# Altium schematic symbol library APT60DQ60SG.SCHLIB: 1 symbol
Pins are listed as number, name and electrical type; pins without a type are passive.

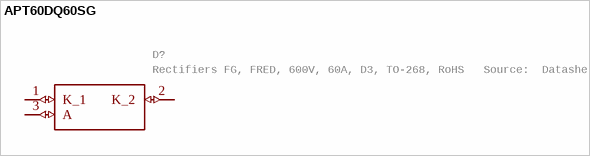
[diagram p0: symbol APT60DQ60SG]

## APT60DQ60SG
designator D?, comment Rectifiers FG, FRED, 600V, 60A, D3, TO-268, RoHS   Source:  Datasheet
Manufacturer_Name: Microsemi Corporation; GateName_1: G$1; SymbolName_1: APT60DQ60SG; LibraryName: APT60DQ60SG; DeviceSetName: APT60DQ60SG; Package: APT60DQ60SG; Manufacturer_Part_Number: APT60DQ60SG; Arrow_Part_Number: APT60DQ60SG; Mouser_Part_Number: 494-APT60DQ60SG; Mouser_Price-Stock: https://www.mouser.co.uk/ProductDetail/Microchip-Microsemi/APT60DQ60SG?qs=T3oQrply3y%2FxiTR%252BTuJEjQ%3D%3D; Description: Rectifiers FG, FRED, 600V, 60A, D3, TO-268, RoHS; Height: 5.1mm
footprint APT60DQ60SG
pins: 1 K_1 (io), 2 K_2 (io), 3 A (io)